# EAGLE library part SATA_DEVICE (library sata_connector)
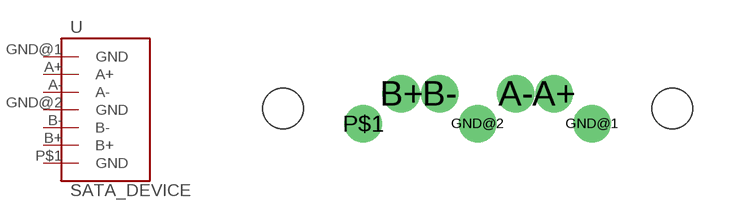
[diagram p0: symbol with the pads of SATA_CONNECTOR_MALE; footprint SATA_CONNECTOR_MALE]

Designator prefix -

## SATA_DEVICE  [SATA_CONNECTOR_MALE]
A+  A+
A-  A-
B+  B+
B-  B-
GND@1  GND
GND@2  GND
P$1  GND

## Footprint SATA_CONNECTOR_MALE (pad centres in mm)
drill 0.74 pad 0.9: A+ 2.54,0.5
drill 0.74: A- 1.27,0.5; B- -1.27,0.5; GND@2 0,-0.5
drill 0.74 pad 0.8: B+ -2.54,0.5; GND@1 3.81,-0.5; P$1 -3.81,-0.5
hole 1.35 at 6.48,0
hole 1.35 at -6.48,0